# Altium footprint library Pcblib_20110825.Pcblib: 408 footprints (part 19 of 26)
Each footprint in its own frame and in the unit in brackets; x right, y up, seen from the top. Pads: shape width x height; smd on the part's side, far side on the other; paste and mask are expansions set on the pad; w line width, h text height; cw(c..) or ccw(c..) is an arc to the next point about the centre after c.
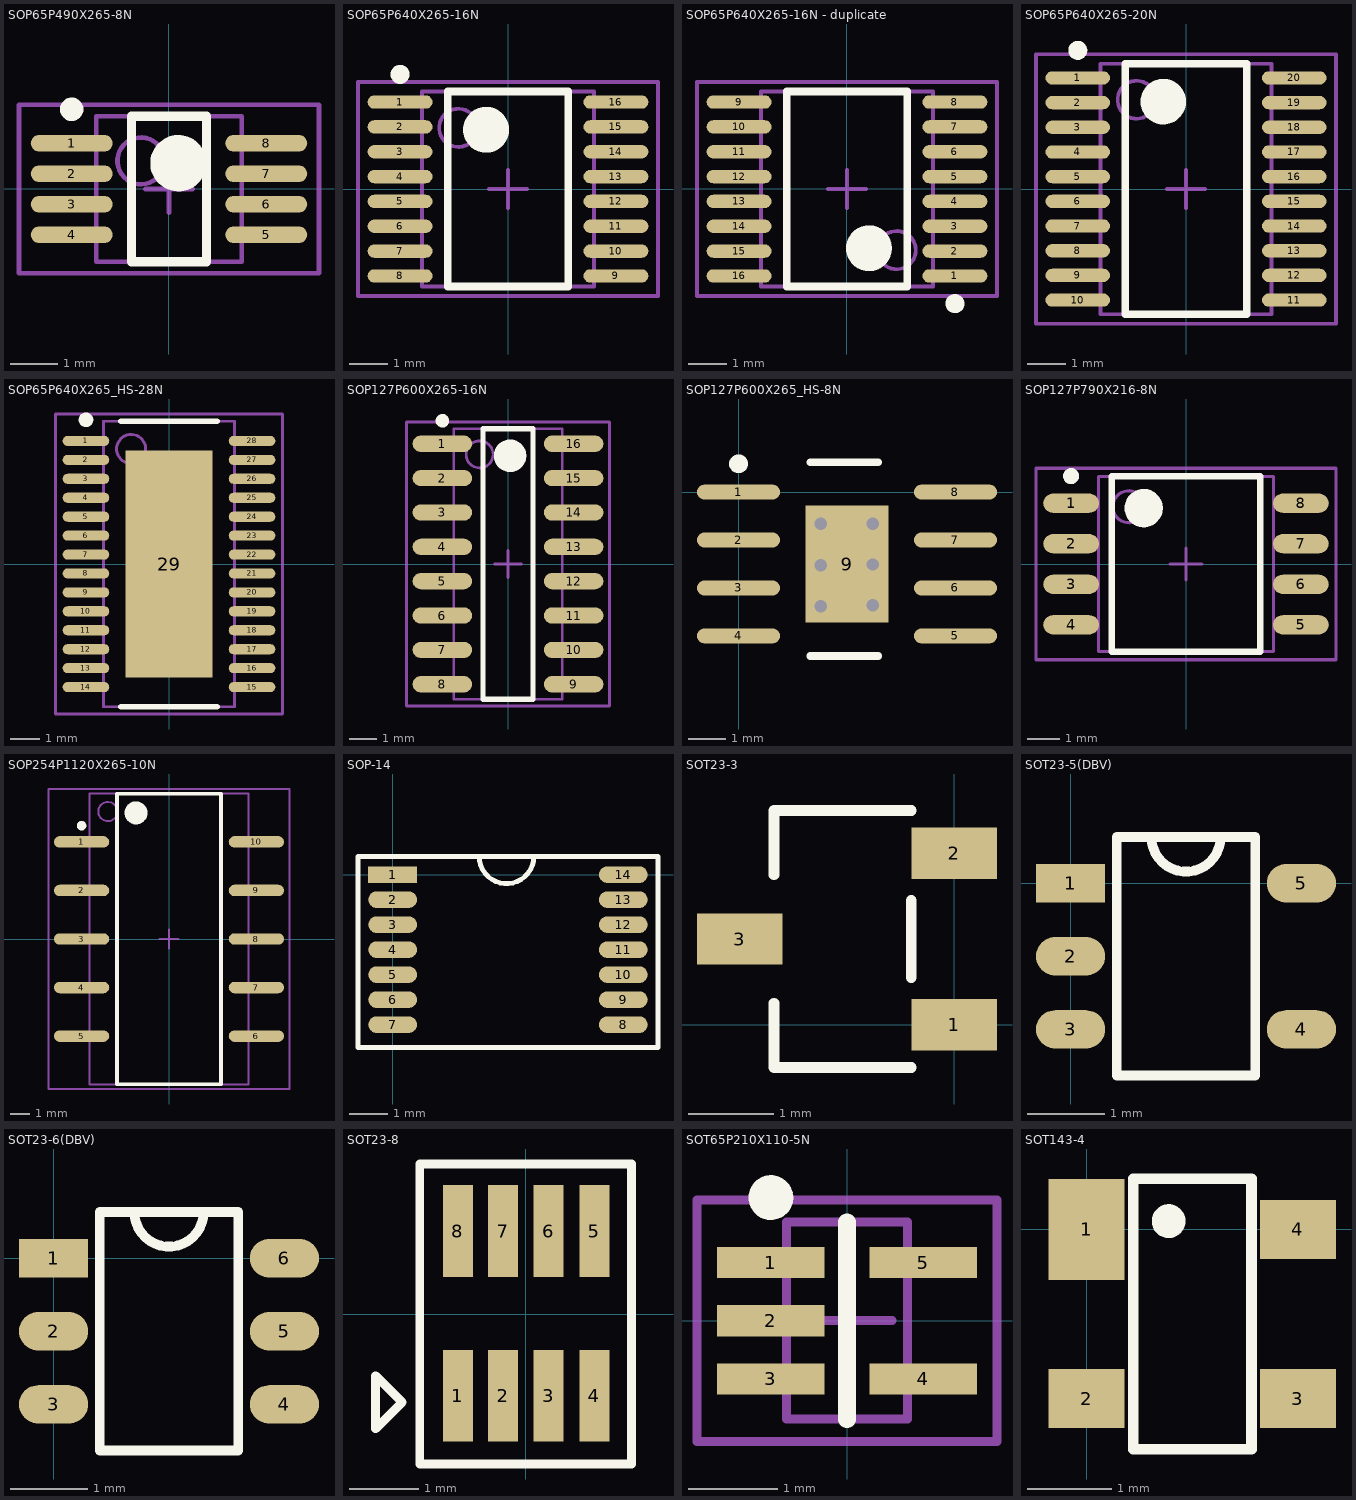
[diagram p18: the footprints below, top view; thin cyan lines are the x and y axes]

## SOP65P490X265-8N [mm] "SOP, 8-Leads, Body 3.1x3.1mm (max), Pitch 0.65mm, IPC Medium Density"
height 2.65
pads (8):
  oval 1.75x0.35 smd: 1(-2.075,0.975) 2(-2.075,0.325) 3(-2.075,-0.325) 4(-2.075,-0.975) 5(2.075,-0.975) 6(2.075,-0.325) 7(2.075,0.325) 8(2.075,0.975)
TopOverlay:
  circle w0.25: c-2.075,1.7 r0.125
  circle w0.6: c0.2,0.55 r0.3
  lines w0.2: -0.8,-1.55 -0.8,1.55 0.8,1.55 0.8,-1.55 -0.8,-1.55
Mechanical13:
  circle w0.1: c-0.6,0.6 r0.5
  lines w0.1: -1.55,-1.55 -1.55,1.55 1.55,1.55 1.55,-1.55 -1.55,-1.55
Mechanical15:
  lines w0.1: -0.5,0 0.5,0 ; 0,-0.5 0,0.5 ; -3.2,-1.8 -3.2,1.8 3.2,1.8 3.2,-1.8 -3.2,-1.8
3D body: height 2.65, standoff 0.1, extent -1.55,-1.55 1.55,1.55

## SOP65P640X265-16N [mm] "SOP, 16-Leads, Body 5.1x4.5mm (max), Pitch 0.65mm, IPC Medium Density"
height 2.65
pads (16):
  oval 1.7x0.35 smd: 1(-2.825,2.275) 2(-2.825,1.625) 3(-2.825,0.975) 4(-2.825,0.325) 5(-2.825,-0.325) 6(-2.825,-0.975) 7(-2.825,-1.625) 8(-2.825,-2.275) 9(2.825,-2.275) 10(2.825,-1.625) 11(2.825,-0.975) 12(2.825,-0.325) 13(2.825,0.325) 14(2.825,0.975) 15(2.825,1.625) 16(2.825,2.275)
TopOverlay:
  circle w0.25: c-2.825,3 r0.125
  circle w0.6: c-0.575,1.55 r0.3
  lines w0.2: -1.575,-2.55 -1.575,2.55 1.575,2.55 1.575,-2.55 -1.575,-2.55
Mechanical13:
  circle w0.1: c-1.3,1.6 r0.5
  lines w0.1: -2.25,-2.55 -2.25,2.55 2.25,2.55 2.25,-2.55 -2.25,-2.55
Mechanical15:
  lines w0.1: -0.5,0 0.5,0 ; 0,-0.5 0,0.5 ; -3.925,-2.8 -3.925,2.8 3.925,2.8 3.925,-2.8 -3.925,-2.8
3D body: height 2.65, standoff 0.1, extent -2.25,-2.55 2.25,2.55

## SOP65P640X265-16N - duplicate [mm] "SOP, 16-Leads, Body 5.1x4.5mm (max), Pitch 0.65mm, IPC Medium Density"
height 2.65
pads (16):
  oval 1.7x0.35 smd: 1(2.825,-2.275) 2(2.825,-1.625) 3(2.825,-0.975) 4(2.825,-0.325) 5(2.825,0.325) 6(2.825,0.975) 7(2.825,1.625) 8(2.825,2.275) 9(-2.825,2.275) 10(-2.825,1.625) 11(-2.825,0.975) 12(-2.825,0.325) 13(-2.825,-0.325) 14(-2.825,-0.975) 15(-2.825,-1.625) 16(-2.825,-2.275)
TopOverlay:
  circle w0.25: c2.825,-3 r0.125
  circle w0.6: c0.575,-1.55 r0.3
  lines w0.2: -1.575,-2.55 -1.575,2.55 1.575,2.55 1.575,-2.55 -1.575,-2.55
Mechanical13:
  circle w0.1: c1.3,-1.6 r0.5
  lines w0.1: -2.25,-2.55 -2.25,2.55 2.25,2.55 2.25,-2.55 -2.25,-2.55
Mechanical15:
  lines w0.1: -0.5,0 0.5,0 ; 0,-0.5 0,0.5 ; -3.925,-2.8 -3.925,2.8 3.925,2.8 3.925,-2.8 -3.925,-2.8
3D body: height 2.65, standoff 0.1, extent -2.25,-2.55 2.25,2.55

## SOP65P640X265-20N [mm] "SOP, 20-Leads, Body 6.6x4.5mm (max), Pitch 0.65mm, IPC Medium Density"
height 2.65
pads (20):
  oval 1.7x0.35 smd: 1(-2.85,2.925) 2(-2.85,2.275) 3(-2.85,1.625) 4(-2.85,0.975) 5(-2.85,0.325) 6(-2.85,-0.325) 7(-2.85,-0.975) 8(-2.85,-1.625) 9(-2.85,-2.275) 10(-2.85,-2.925) 11(2.85,-2.925) 12(2.85,-2.275) 13(2.85,-1.625) 14(2.85,-0.975) 15(2.85,-0.325) 16(2.85,0.325) 17(2.85,0.975) 18(2.85,1.625) 19(2.85,2.275) 20(2.85,2.925)
TopOverlay:
  circle w0.6: c-0.6,2.3 r0.3
  circle w0.25: c-2.85,3.65 r0.125
  lines w0.2: -1.6,-3.3 1.6,-3.3 1.6,3.3 -1.6,3.3 -1.6,-3.3
Mechanical13:
  circle w0.1: c-1.3,2.35 r0.5
  lines w0.1: -2.25,-3.3 2.25,-3.3 2.25,3.3 -2.25,3.3 -2.25,-3.3
Mechanical15:
  lines w0.1: -0.5,0 0.5,0 ; 0,-0.5 0,0.5 ; -3.95,-3.55 3.95,-3.55 3.95,3.55 -3.95,3.55 -3.95,-3.55
3D body: height 2.65, standoff 0.1, extent -2.25,-3.3 2.25,3.3

## SOP65P640X265_HS-28N [mm] "SOP, 28-Leads, Body 9.8x4.5mm (max), Pitch 0.65mm, IPC Medium Density"
height 2.65
pads (29):
  oval 1.6x0.35 smd: 1(-2.85,4.225) 2(-2.85,3.575) 3(-2.85,2.925) 4(-2.85,2.275) 5(-2.85,1.625) 6(-2.85,0.975) 7(-2.85,0.325) 8(-2.85,-0.325) 9(-2.85,-0.975) 10(-2.85,-1.625) 11(-2.85,-2.275) 12(-2.85,-2.925) 13(-2.85,-3.575) 14(-2.85,-4.225) 15(2.85,-4.225) 16(2.85,-3.575) 17(2.85,-2.925) 18(2.85,-2.275) 19(2.85,-1.625) 20(2.85,-0.975) 21(2.85,-0.325) 22(2.85,0.325) 23(2.85,0.975) 24(2.85,1.625) 25(2.85,2.275) 26(2.85,2.925) 27(2.85,3.575) 28(2.85,4.225)
  rect 3x7.8 smd: 29(0,0)
TopOverlay:
  circle w0.25: c-2.85,4.95 r0.125
  lines w0.2: -1.65,-4.9 1.65,-4.9 ; -1.65,4.9 1.65,4.9
Mechanical13:
  circle w0.1: c-1.3,3.95 r0.5
  lines w0.1: -2.25,-4.9 -2.25,4.9 2.25,4.9 2.25,-4.9 -2.25,-4.9
Mechanical15:
  lines w0.1: -0.5,0 0.5,0 ; 0,-0.5 0,0.5 ; -3.9,-5.15 -3.9,5.15 3.9,5.15 3.9,-5.15 -3.9,-5.15
3D body: height 2.65, standoff 0.1, extent -2.25,-4.9 2.25,4.9

## SOP127P600X265-16N [mm] "SOP, 16-Leads, Body 10.0x4.0mm (max), Pitch 1.27mm, IPC Medium Density"
height 2.65
pads (16):
  oval 2.2x0.6 smd: 1(-2.425,4.445) 2(-2.425,3.175) 3(-2.425,1.905) 4(-2.425,0.635) 5(-2.425,-0.635) 6(-2.425,-1.905) 7(-2.425,-3.175) 8(-2.425,-4.445) 9(2.425,-4.445) 10(2.425,-3.175) 11(2.425,-1.905) 12(2.425,-0.635) 13(2.425,0.635) 14(2.425,1.905) 15(2.425,3.175) 16(2.425,4.445)
TopOverlay:
  circle w0.6: c0.075,4 r0.3
  circle w0.25: c-2.425,5.295 r0.125
  lines w0.2: -0.925,-5 0.925,-5 0.925,5 -0.925,5 -0.925,-5
Mechanical13:
  circle w0.1: c-1.05,4.05 r0.5
  lines w0.1: -2,-5 2,-5 2,5 -2,5 -2,-5
Mechanical15:
  lines w0.1: -0.5,0 0.5,0 ; 0,-0.5 0,0.5 ; -3.75,-5.25 3.75,-5.25 3.75,5.25 -3.75,5.25 -3.75,-5.25
3D body: height 2.65, standoff 0.1, extent -2,-5 2,5

## SOP127P600X265_HS-8N [mm] "SOP, 8-Leads, Body 5.0x4.0mm (max), Pitch 1.27mm, IPC Medium Density"
height 2.65
pads (9):
  oval 2.2x0.4 smd: 1(0,0) 2(0,-1.27) 3(0,-2.54) 4(0,-3.81) 5(5.75,-3.81) 6(5.75,-2.54) 7(5.75,-1.27) 8(5.75,0)
  rect 2.2x3.1 smd: 9(2.875,-1.905)
via 2.184,-3.023 diameter 0.66 hole 0.33
via 2.184,-1.943 diameter 0.66 hole 0.33
via 2.184,-0.838 diameter 0.66 hole 0.33
via 3.556,-0.838 diameter 0.66 hole 0.33
via 3.556,-1.918 diameter 0.66 hole 0.33
via 3.556,-2.997 diameter 0.66 hole 0.33
TopOverlay:
  circle w0.25: c0,0.75 r0.125
  lines w0.2: 1.905,-4.343 3.705,-4.343 ; 1.905,0.787 3.705,0.787

## SOP127P790X216-8N [mm] "SOP, 8-Leads, Body 5.5x5.5mm (max), Pitch 1.27mm, IPC Medium Density"
height 2.16
pads (8):
  oval 1.75x0.6 smd: 1(-3.6,1.905) 2(-3.6,0.635) 3(-3.6,-0.635) 4(-3.6,-1.905) 5(3.6,-1.905) 6(3.6,-0.635) 7(3.6,0.635) 8(3.6,1.905)
TopOverlay:
  circle w0.25: c-3.6,2.755 r0.125
  circle w0.6: c-1.325,1.75 r0.3
  lines w0.2: -2.325,-2.75 -2.325,2.75 2.325,2.75 2.325,-2.75 -2.325,-2.75
Mechanical13:
  circle w0.1: c-1.795,1.795 r0.5
  lines w0.1: -2.745,-2.745 -2.745,2.745 2.745,2.745 2.745,-2.745 -2.745,-2.745
Mechanical15:
  lines w0.1: -0.5,0 0.5,0 ; 0,-0.5 0,0.5 ; -4.7,-3 -4.7,3 4.7,3 4.7,-3 -4.7,-3
3D body: height 2.16, standoff 0.1, extent -2.745,-2.745 2.745,2.745

## SOP254P1120X265-10N [mm] "SOP, 10-Leads, Body 15.2x8.3mm (max), Pitch 2.54mm, IPC Medium Density"
height 2.65
pads (10):
  oval 2.9x0.6 smd: 1(-4.575,5.08) 2(-4.575,2.54) 3(-4.575,0) 4(-4.575,-2.54) 5(-4.575,-5.08) 6(4.575,-5.08) 7(4.575,-2.54) 8(4.575,0) 9(4.575,2.54) 10(4.575,5.08)
TopOverlay:
  circle w0.6: c-1.725,6.6 r0.3
  circle w0.25: c-4.575,5.93 r0.125
  lines w0.2: -2.725,-7.6 2.725,-7.6 2.725,7.6 -2.725,7.6 -2.725,-7.6
Mechanical13:
  circle w0.1: c-3.2,6.67 r0.5
  lines w0.1: -4.15,-7.62 4.15,-7.62 4.15,7.62 -4.15,7.62 -4.15,-7.62
Mechanical15:
  lines w0.1: -0.5,0 0.5,0 ; 0,-0.5 0,0.5 ; -6.3,-7.85 6.3,-7.85 6.3,7.85 -6.3,7.85 -6.3,-7.85
3D body: height 2.65, standoff 0.1, extent -4.15,-7.62 4.15,7.62

## SOP-14 [mm]
pads (14):
  rect 1.27x0.432 smd: 1(0,0)
  oval 1.27x0.432 smd: 2(0,-0.65) 3(0,-1.3) 4(0,-1.95) 5(0,-2.6) 6(0,-3.25) 7(0,-3.9) 8(6,-3.9) 9(6,-3.25) 10(6,-2.6) 11(6,-1.95) 12(6,-1.3) 13(6,-0.65) 14(6,0)
TopOverlay:
  lines w0.127: 2.25,0.475 ccw(c2.961,0.475) 3.672,0.475 ; -0.9,-4.5 6.9,-4.5 6.9,0.475 -0.9,0.475 -0.9,-4.5

## SOT23-3 [mm]
pads (3):
  rect 1x0.6 smd: 1(0,0) 2(0,2) 3(-2.5,1)
TopOverlay:
  lines w0.127: -2.1,0.25 -2.1,-0.5 -0.5,-0.5 ; -2.1,1.75 -2.1,2.5 -0.5,2.5 ; -0.5,0.55 -0.5,1.45

## SOT23-5(DBV) [mm]
pads (5):
  rect 0.9x0.5 smd: 1(0,0)
  oval 0.9x0.5 smd: 2(0,-0.95) 3(0,-1.9) 4(3,-1.9) 5(3,0)
TopOverlay:
  lines w0.127: 1.05,0.6 ccw(c1.5,0.6) 1.95,0.6 ; 0.6,-2.5 2.4,-2.5 2.4,0.6 0.6,0.6 0.6,-2.5

## SOT23-6(DBV) [mm]
pads (6):
  rect 0.9x0.5 smd: 1(0,0)
  oval 0.9x0.5 smd: 2(0,-0.95) 3(0,-1.9) 4(3,-1.9) 5(3,-0.95) 6(3,0)
TopOverlay:
  lines w0.127: 1.05,0.6 ccw(c1.5,0.6) 1.95,0.6 ; 0.6,-2.5 2.4,-2.5 2.4,0.6 0.6,0.6 0.6,-2.5

## SOT23-8 [mil] "SOT23-8"
pads (8):
  rect 17x52 smd: 1(-38.39,-46.26) 2(-12.8,-46.26) 3(13,-46.26) 4(39,-46.26) 5(39,47) 6(13,47) 7(-12.8,47) 8(-38.39,47)
TopOverlay:
  lines w5: -85,-65 -85,-35 -70,-50 -85,-65 ; -60,-85 -60,85 60,85 60,-85 -60,-85

## SOT65P210X110-5N [mm] "SOT23, 5-Leads, Body 2.2x2.4mm (max), Pitch 0.65mm, IPC Medium Density"
height 1.1
pads (5):
  rect 1.2x0.35 smd: 1(-0.85,0.65) 2(-0.85,0) 3(-0.85,-0.65) 4(0.85,-0.65) 5(0.85,0.65)
TopOverlay:
  circle w0.25: c-0.85,1.375 r0.125
  lines w0.2: 0,-1.1 0,1.1 0,-1.1
Mechanical13:
  lines w0.1: -0.675,-1.1 -0.675,1.1 0.675,1.1 0.675,-1.1 -0.675,-1.1
Mechanical15:
  lines w0.1: -0.5,0 0.5,0 ; 0,-0.5 0,0.5 ; -1.675,-1.35 -1.675,1.35 1.675,1.35 1.675,-1.35 -1.675,-1.35
3D body: height 1.1, standoff 0.05, extent -0.675,-1.1 0.675,1.1

## SOT143-4 [mm]
pads (4):
  rect 0.9x1.2 smd: 1(0,0)
  rect 0.9x0.7 smd: 2(0,-2) 3(2.5,-2) 4(2.5,0)
TopOverlay:
  circle w0.2: c0.969,0.099 r0.1
  lines w0.127: 0.55,-2.6 1.95,-2.6 1.95,0.6 0.55,0.6 0.55,-2.6